# Altium schematic symbol library ISO.SchLib: 5 symbols
Pins are listed as number, name and electrical type; pins without a type are passive.

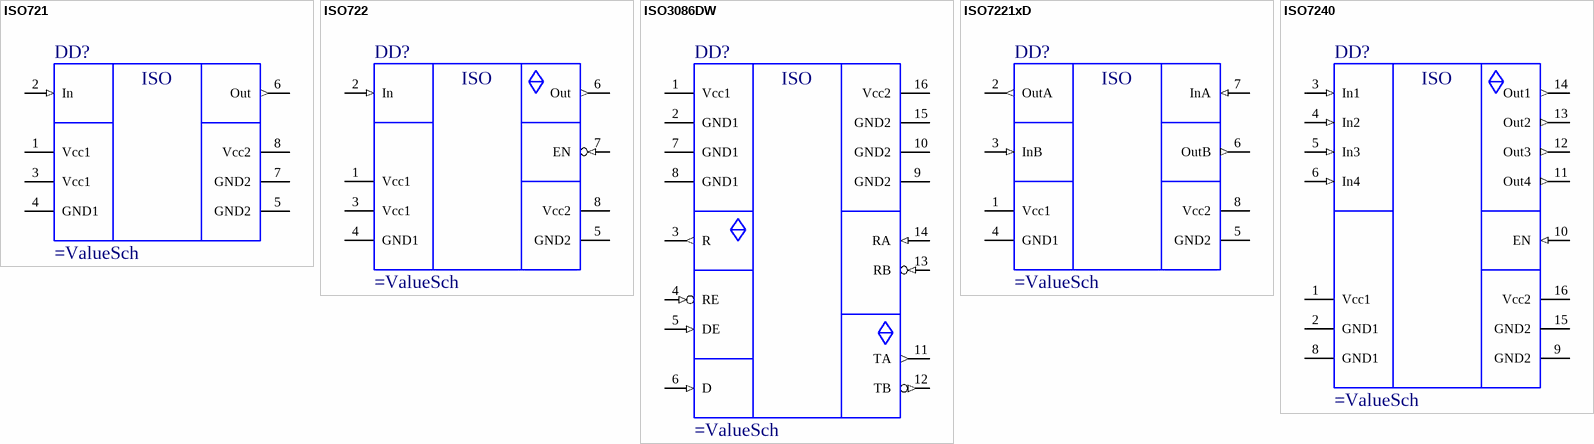
[diagram p0: symbols ISO721 to ISO7240]

## ISO721
designator DD?
ISO721Mx
pins: 1 Vcc1 (power), 2 In (in), 3 Vcc1 (power), 4 GND1 (power), 5 GND2 (power), 6 Out (out), 7 GND2 (power), 8 Vcc2 (power)
text: ISO

## ISO722
designator DD?
ISO722Mx
pins: 1 Vcc1 (power), 2 In (in), 3 Vcc1 (power), 4 GND1 (power), 5 GND2 (power), 6 Out (out), 7 EN (in), 8 Vcc2 (power)
text: ISO

## ISO3086DW
designator DD?
ISO3086DW
pins: 1 Vcc1 (power), 2 GND1 (power), 3 R (out), 4 RE (in), 5 DE (in), 6 D (in), 7 GND1 (power), 8 GND1 (power), 9 GND2 (power), 10 GND2 (power), 11 TA (out), 12 TB (out), 13 RB (in), 14 RA (in), 15 GND2 (power), 16 Vcc2 (power)
text: ISO

## ISO7221xD
designator DD?
ISO7221xD
pins: 1 Vcc1 (power), 2 OutA (out), 3 InB (in), 4 GND1 (power), 5 GND2 (power), 6 OutB (out), 7 InA (in), 8 Vcc2 (power)
text: ISO

## ISO7240
designator DD?
ISO7240MD
pins: 1 Vcc1 (power), 2 GND1 (power), 3 In1 (in), 4 In2 (in), 5 In3 (in), 6 In4 (in), 8 GND1 (power), 9 GND2 (power), 10 EN (in), 11 Out4 (out), 12 Out3 (out), 13 Out2 (out), 14 Out1 (out), 15 GND2 (power), 16 Vcc2 (power)
text: ISO